# Altium footprint library djahng.PcbLib: 58 footprints (part 3 of 4)
Each footprint in its own frame and in the unit in brackets; x right, y up, seen from the top. Pads: shape width x height; smd on the part's side, far side on the other; paste and mask are expansions set on the pad; w line width, h text height; cw(c..) or ccw(c..) is an arc to the next point about the centre after c.
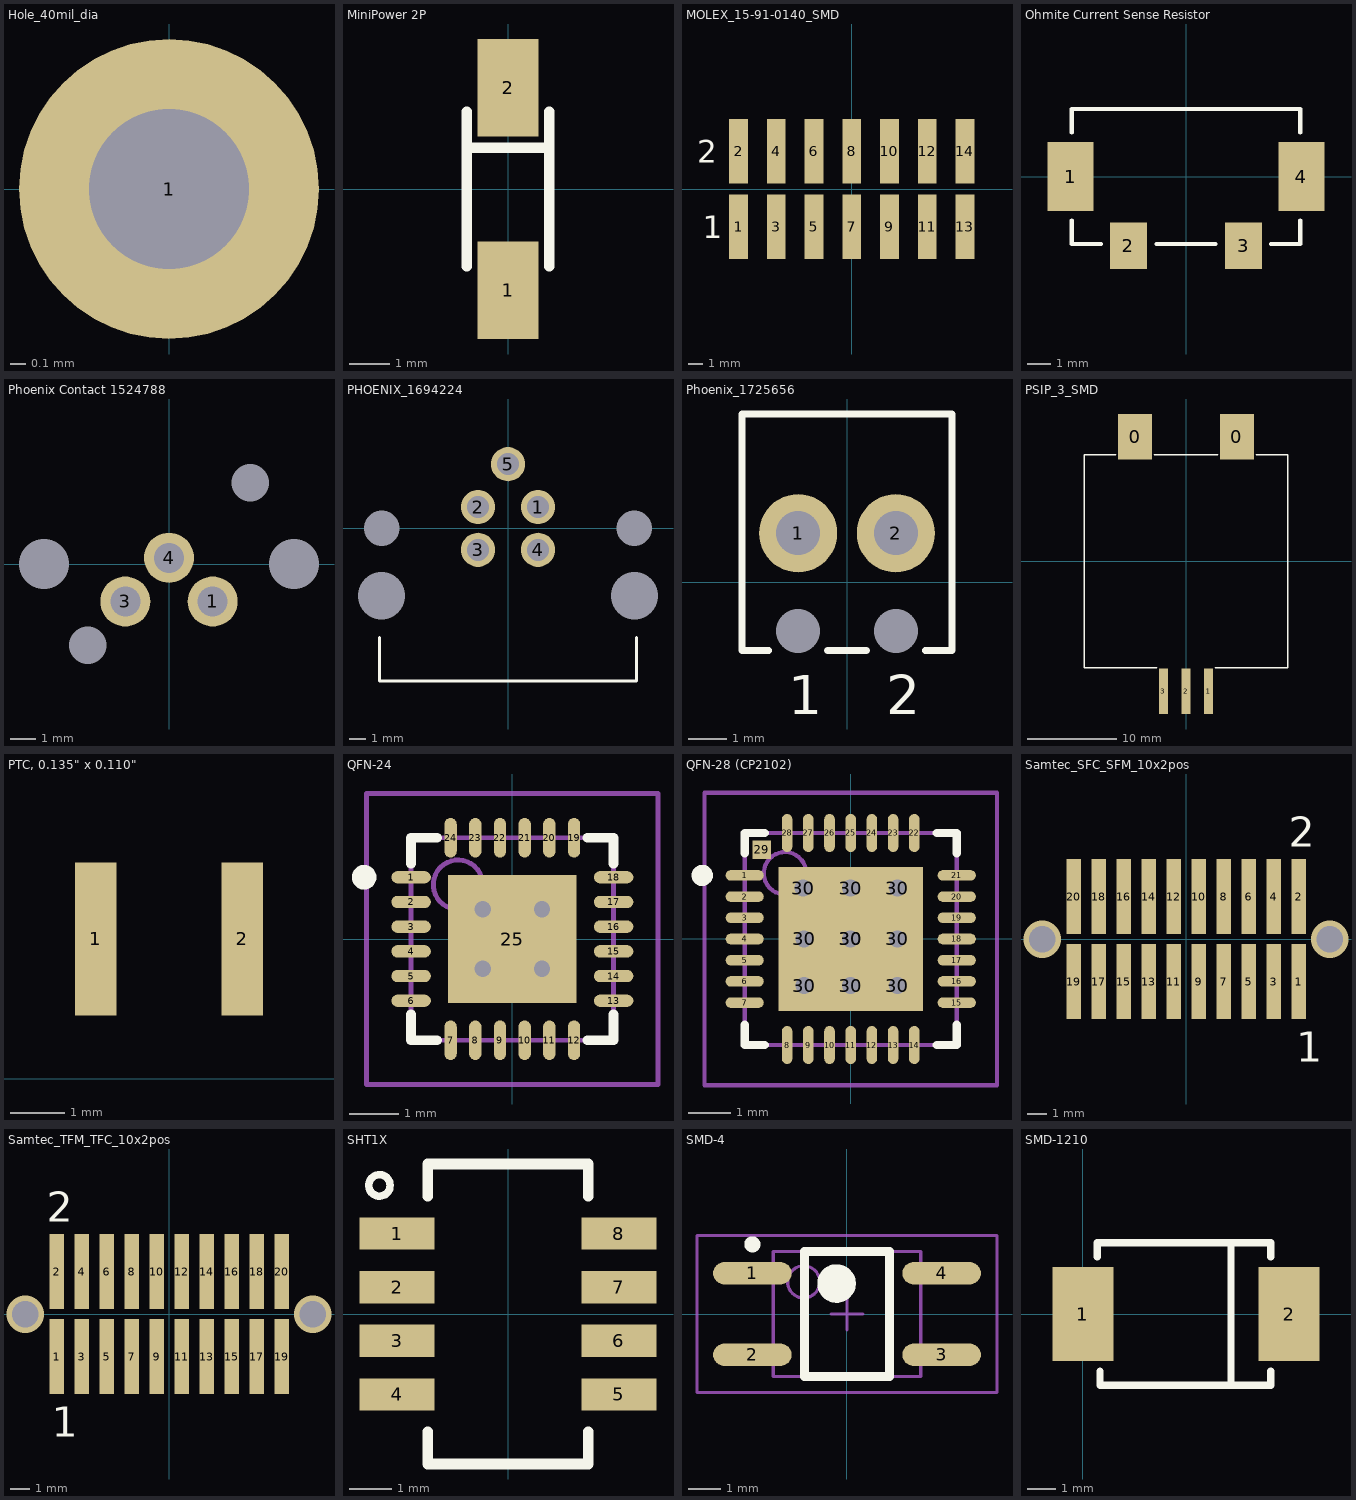
[diagram p2: the footprints below, top view; thin cyan lines are the x and y axes]

## Hole_40mil_dia [mil]
pads (1):
  round 75 hole 40: 1(0,0)

## MiniPower 2P [mm] "Diode, MiniPower 2P, Panasonic Package"
height 2.15
pads (2):
  rect 1.5x2.4 smd: 1(0,-2.5) 2(0,2.5)
Top Overlay:
  lines w0.254: -1.016,-1.905 -1.016,1.905 ; -1.016,1.016 1.016,1.016 ; 1.016,-1.905 1.016,1.905

## MOLEX_15-91-0140_SMD [mil] "Molex 15-91-0140, 14 pin SMD .1\""
height 400
pads (14):
  rect 50x170 smd: 1(-300,-100) 2(-300,100) 3(-200,-100) 4(-200,100) 5(-100,-100) 6(-100,100) 7(0,-100) 8(0,100) 9(100,-100) 10(100,100) 11(200,-100) 12(200,100) 13(300,-100) 14(300,100)
Top Overlay:
  text "2" at -410,70 h60
  text "1" at -395,-130 h60

## Ohmite Current Sense Resistor [mm]
pads (4):
  rect 2x3 smd: 1(-5,0) 4(5,0)
  rect 1.6x2 smd: 2(-2.5,-3) 3(2.5,-3)
Top Overlay:
  lines w0.178: -4.953,-1.905 -4.953,-2.921 -3.683,-2.921 ; -4.953,1.905 -4.953,2.921 4.953,2.921 4.953,1.905 ; -1.27,-2.921 1.27,-2.921 ; 3.683,-2.921 4.953,-2.921 4.953,-1.905

## Phoenix Contact 1524788 [mm]
pads (7):
  round 0 hole 2: 0(-5,0) 0(5,0)
  round 0 hole 1.5: 0(-3.25,-3.25) 0(3.25,3.25)
  round 2 hole 1.2: 1(1.75,-1.5) 3(-1.75,-1.5) 4(0,0.25)

## PHOENIX_1694224 [mil] "Phoenix Contact 1694224 M12 PCB Right Angle 5pin Connector"
height 646
pads (9):
  round 0 hole 110: 0(-295,-157) 0(295,-157)
  round 0 hole 83: 0(-295,0) 0(295,0)
  round 80 hole 51: 1(70,50) 2(-70,50) 3(-70,-50) 4(70,-50) 5(0,150)
Top Overlay:
  lines w7: -300,-255 -300,-356 300,-356 300,-255

## Phoenix_1725656 [mil] "Phoneix Contact, 1725656, 2 pin terminal block, 63V, 6A, 0.1\""
height 335
pads (4):
  round 0 hole 45 unplated: 0(-50,-50) 0(50,-50)
  round 80 hole 45: 1(-50,50) 2(50,50)
Top Overlay:
  lines w7: -80,-70 -107.5,-70 -107.5,172 107.5,172 107.5,-70 80,-70 ; -20,-70 20,-70
  text "1" at -60,-135 h40
  text "2" at 40,-135 h40

## PSIP_3_SMD [mil] "Plastic Single-In-Line Module, 3 pins"
height 340
pads (5):
  rect 150x200 smd: 0(-225,550) 0(225,550)
  rect 40x200 smd: 1(100,-575) 2(0,-575) 3(-100,-575)
Top Overlay:
  lines w7: -310,470 -450,470 -450,-470 -130,-470 ; -140,470 140,470 ; 130,-470 450,-470 450,470 310,470

## PTC, 0.135" x 0.110" [mil]
pads (2):
  rect 30x110 smd: 1(-200,100) 2(-95,100)

## QFN-24 [mm] "QFN, 24-Leads, Body 4.1x4.1mm (max), Pitch 0.50mm, IPC Low Density"
height 0.8
pads (25):
  oval 0.8x0.25 smd: 1(-2.05,1.25) 2(-2.05,0.75) 3(-2.05,0.25) 4(-2.05,-0.25) 5(-2.05,-0.75) 6(-2.05,-1.25) 13(2.05,-1.25) 14(2.05,-0.75) 15(2.05,-0.25) 16(2.05,0.25) 17(2.05,0.75) 18(2.05,1.25)
  oval 0.25x0.8 smd: 7(-1.25,-2.05) 8(-0.75,-2.05) 9(-0.25,-2.05) 10(0.25,-2.05) 11(0.75,-2.05) 12(1.25,-2.05) 19(1.25,2.05) 20(0.75,2.05) 21(0.25,2.05) 22(-0.25,2.05) 23(-0.75,2.05) 24(-1.25,2.05)
  rect 2.6x2.6 smd: 25(0,0)
via 0.6,-0.6 diameter 0.711 hole 0.33
via -0.6,-0.6 diameter 0.711 hole 0.33
via 0.6,0.6 diameter 0.711 hole 0.33
via -0.6,0.6 diameter 0.711 hole 0.33
Top Overlay:
  circle w0.25: c-3,1.25 r0.125
  lines w0.2: -2.05,-1.525 -2.05,-2.05 -1.525,-2.05 ; -2.05,1.525 -2.05,2.05 -1.525,2.05 ; 1.525,-2.05 2.05,-2.05 2.05,-1.525 ; 1.525,2.05 2.05,2.05 2.05,1.525
Mechanical 13:
  circle w0.1: c-1.1,1.1 r0.5
  lines w0.1: -2.05,-2.05 2.05,-2.05 2.05,2.05 -2.05,2.05 -2.05,-2.05
Mechanical 15:
  lines w0.1: -0.5,0 0.5,0 ; 0,-0.5 0,0.5 ; -2.95,-2.95 2.95,-2.95 2.95,2.95 -2.95,2.95 -2.95,-2.95
3D body: height 0.8, standoff 0.05, extent -2.05,-2.05 2.05,2.05

## QFN-28 (CP2102) [mm] "QFN, 28-Leads, Body 5.0x5.0mm (max), Pitch 0.50mm, IPC Low Density"
height 0.9
pads (39):
  oval 0.9x0.25 smd: 1(-2.5,1.5) 2(-2.5,1) 3(-2.5,0.5) 4(-2.5,0) 5(-2.5,-0.5) 6(-2.5,-1) 7(-2.5,-1.5) 15(2.5,-1.5) 16(2.5,-1) 17(2.5,-0.5) 18(2.5,0) 19(2.5,0.5) 20(2.5,1) 21(2.5,1.5)
  oval 0.25x0.9 smd: 8(-1.5,-2.5) 9(-1,-2.5) 10(-0.5,-2.5) 11(0,-2.5) 12(0.5,-2.5) 13(1,-2.5) 14(1.5,-2.5) 22(1.5,2.5) 23(1,2.5) 24(0.5,2.5) 25(0,2.5) 26(-0.5,2.5) 27(-1,2.5) 28(-1.5,2.5)
  rect 0.435x0.435 smd: 29(-2.103,2.103)
  round 0.75 hole 0.4: 30(-1.125,1.2) 30(-1.1,-1.1) 30(-1.1,0) 30(0,-1.1) 30(0,0) 30(0,1.2) 30(1.1,-1.1) 30(1.1,0) 30(1.1,1.2)
  rect 3.4x3.4 smd: 30(0,0)
Top Overlay:
  circle w0.25: c-3.5,1.5 r0.125
  lines w0.2: -2.5,-2.025 -2.5,-2.5 -2.025,-2.5 ; -2.5,2.025 -2.5,2.5 -2.025,2.5 ; 2.025,-2.5 2.5,-2.5 2.5,-2.025 ; 2.025,2.5 2.5,2.5 2.5,2.025
Mechanical 13:
  circle w0.1: c-1.55,1.55 r0.5
  lines w0.1: -2.5,-2.5 2.5,-2.5 2.5,2.5 -2.5,2.5 -2.5,-2.5
Mechanical 15:
  lines w0.1: -0.5,0 0.5,0 ; 0,-0.5 0,0.5 ; -3.45,-3.45 3.45,-3.45 3.45,3.45 -3.45,3.45 -3.45,-3.45
3D body: height 0.9, standoff 0.02, extent -2.5,-2.5 2.5,2.5

## Samtec_SFC_SFM_10x2pos [mil] "Samtec SFC and SFM board stacker, 10x2 positions, alignment pin"
height 180
pads (20):
  rect 29x150 smd: 1(225,-85) 2(225,85) 3(175,-85) 4(175,85) 5(125,-85) 6(125,85) 7(75,-85) 8(75,85) 9(25,-85) 10(25,85) 11(-25,-85) 12(-25,85) 13(-75,-85) 14(-75,85) 15(-125,-85) 16(-125,85) 17(-175,-85) 18(-175,85) 19(-225,-85) 20(-225,85)
via 287.5,0 diameter 75 hole 53
via -287.5,0 diameter 75 hole 53
Top Overlay:
  text "2" at 205,185 h60
  text "1" at 220,-245 h60

## Samtec_TFM_TFC_10x2pos [mil] "Samtec TFM and TFC board stacker, 10x2 positions, alignment pin"
height 440
pads (20):
  rect 29x150 smd: 1(-225,-85) 2(-225,85) 3(-175,-85) 4(-175,85) 5(-125,-85) 6(-125,85) 7(-75,-85) 8(-75,85) 9(-25,-85) 10(-25,85) 11(25,-85) 12(25,85) 13(75,-85) 14(75,85) 15(125,-85) 16(125,85) 17(175,-85) 18(175,85) 19(225,-85) 20(225,85)
via 287.5,0 diameter 75 hole 53
via -287.5,0 diameter 75 hole 53
Top Overlay:
  text "2" at -245,185 h60
  text "1" at -235,-245 h60

## SHT1X [mil] "SHT1X Humidity and Temperature Sensor"
height 98.43
pads (8):
  rect 70x30 smd: 1(-103.5,75) 2(-103.5,25) 3(-103.5,-25) 4(-103.5,-75) 5(103.5,-75) 6(103.5,-25) 7(103.5,25) 8(103.5,75)
Top Overlay:
  circle w7.01: c-120,120 r10
  lines w10: -75,-110 -75,-140 75,-140 75,-110 ; -75,110 -75,130 -75,140 75,140 75,110

## SMD-4 [mm] "SMD-4 Package for Avago HCPL-181"
height 2
pads (4):
  oval 2.45x0.7 smd: 1(-2.95,1.27) 2(-2.95,-1.27) 3(2.95,-1.27) 4(2.95,1.27)
Top Overlay:
  circle w0.25: c-2.95,2.17 r0.125
  circle w0.6: c-0.325,0.95 r0.3
  lines w0.276: -1.325,-1.95 -1.325,1.95 1.325,1.95 1.325,-1.95 -1.325,-1.95
Mechanical 13:
  circle w0.1: c-1.35,1 r0.5
  lines w0.1: -2.3,-1.95 -2.3,1.95 2.3,1.95 2.3,-1.95 -2.3,-1.95
Mechanical 15:
  lines w0.1: -0.5,0 0.5,0 ; 0,-0.5 0,0.5 ; -4.675,-2.45 -4.675,2.45 4.675,2.45 4.675,-2.45 -4.675,-2.45
3D body: height 2, standoff 0.2, extent -2.3,-1.95 2.3,1.95

## SMD-1210 [mil]
pads (2):
  rect 85x130 smd: 1(0,0) 2(285,0)
Top Overlay:
  lines w10: 19.68,78.74 19.68,98.43 259.84,98.43 259.84,78.74 ; 23.62,-78.74 23.62,-98.43 259.84,-98.43 259.84,-78.74 ; 204.72,-98.43 204.72,98.43